# EAGLE library part LM2575 (library anasoft)
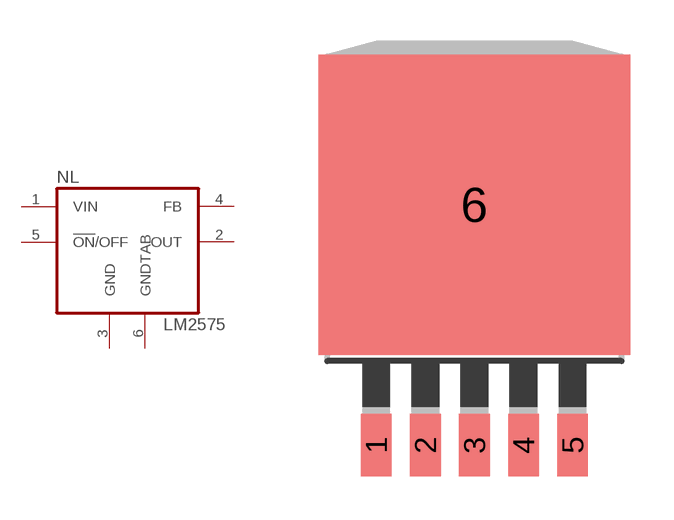
[diagram p1: symbol with the pads of TO263-5; footprint TO263-5]

Designator prefix NL

## LM2575  [TO263-5]
1  VIN
2  OUT
3  GND
4  FB
5  !ON!/OFF
6  GNDTAB

## Footprint TO263-5 (pad centres in mm)
TO-263
smd 1.067 x 2.159: 1 -3.404,-5.791; 2 -1.702,-5.791; 3 0,-5.791; 4 1.702,-5.791; 5 3.404,-5.791
smd 10.8 x 10.41: 6 0,2.54